# EAGLE library part MAX16820 (library MAX16820 LED Driver, constant current)
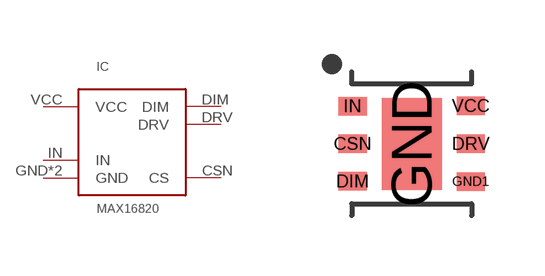
[diagram p0: symbol with the pads of TDFN-6-EP; footprint TDFN-6-EP]

Designator prefix IC

## MAX16820  [TDFN-6-EP]
CSN  CS
DIM  DIM
DRV  DRV
GND  GND  pwr
GND1  GND  pwr
IN  IN  pwr
VCC  VCC  pwr

## Footprint TDFN-6-EP (pad centres in mm)
smd 0.71 x 0.46: CSN -1.48,0; DIM -1.48,-0.94; DRV 1.48,0; GND1 1.48,-0.95; IN -1.48,0.94; VCC 1.48,0.95
smd 1.5 x 2.3: GND 0,0